# EAGLE library part 9ROW (library Terminals)
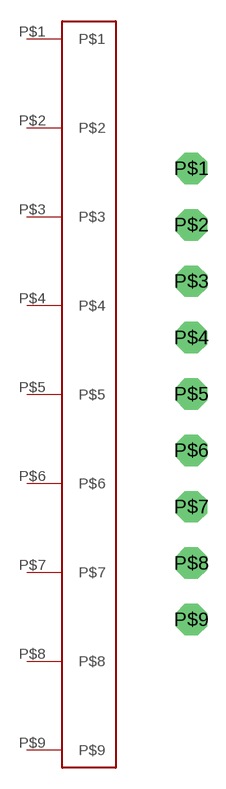
[diagram p1: symbol with the pads of ROWS; footprint ROWS]

Designator prefix -

## 9ROW  [ROWS]
P$1  P$1
P$2  P$2
P$3  P$3
P$4  P$4
P$5  P$5
P$6  P$6
P$7  P$7
P$8  P$8
P$9  P$9

## Footprint ROWS (pad centres in mm)
drill 1.25 pad 2.5 octagon: P$1 0,0; P$2 0,-4.5; P$3 0,-9; P$4 0,-13.5; P$5 0,-18; P$6 0,-22.5; P$7 0,-27; P$8 0,-31.5; P$9 0,-36